# Altium footprint library PCB - CONNECTORS - TE - FFC_15p - 1-1734248-5.PcbLib: 1 footprints
Each footprint in its own frame and in the unit in brackets; x right, y up, seen from the top. Pads: shape width x height; smd on the part's side, far side on the other; paste and mask are expansions set on the pad; w line width, h text height; cw(c..) or ccw(c..) is an arc to the next point about the centre after c.
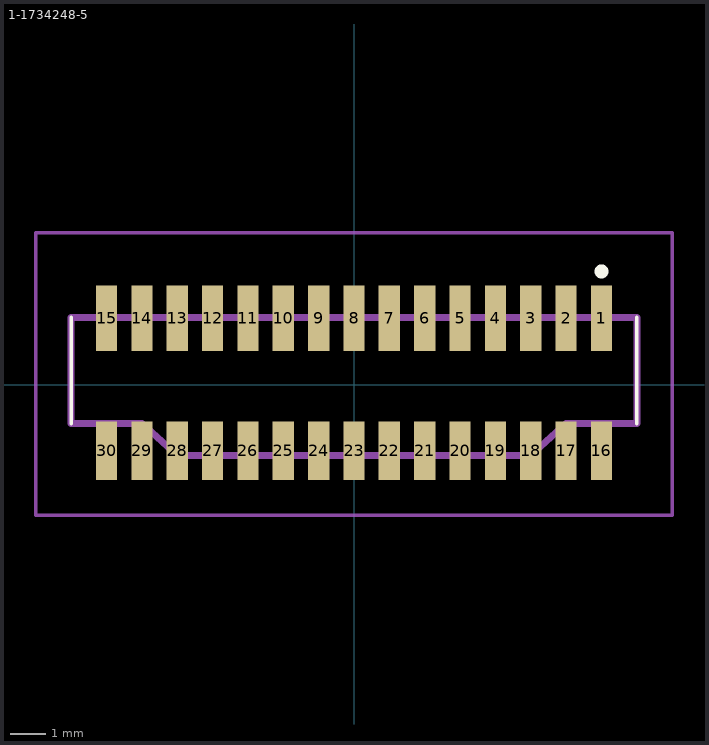
[diagram p0: the footprint, top view; thin cyan lines are the x and y axes]

## 1-1734248-5 [mm]
pads (30):
  rect 0.6x1.85 smd: 1(7,1.875) 2(6,1.875) 3(5,1.875) 4(4,1.875) 5(3,1.875) 6(2,1.875) 7(1,1.875) 8(0,1.875) 9(-1,1.875) 10(-2,1.875) 11(-3,1.875) 12(-4,1.875) 13(-5,1.875) 14(-6,1.875) 15(-7,1.875)
  rect 0.6x1.65 smd: 16(7,-1.875) 17(6,-1.875) 18(5,-1.875) 19(4,-1.875) 20(3,-1.875) 21(2,-1.875) 22(1,-1.875) 23(0,-1.875) 24(-1,-1.875) 25(-2,-1.875) 26(-3,-1.875) 27(-4,-1.875) 28(-5,-1.875) 29(-6,-1.875) 30(-7,-1.875)
Top Overlay:
  lines w0.1: -8,-1.1 -8,1.9 ; 8,-1.1 8,1.9
  lines w0.2: 6.9,3.2 ccw(c7,3.2) 7.1,3.2 ccw(c7,3.2) 6.9,3.2
Mechanical 13:
  lines w0.2: -8,-1.1 -6,-1.1 -5,-2 5,-2 6,-1.1 8,-1.1 8,1.9 -8,1.9 -8,-1.1
Mechanical 15:
  lines w0.1: -9,-3.7 -9,4.3 9,4.3 9,-3.7 -9,-3.7
3D body "1-1734248-5.stp": height 5.68, standoff 0, extent -11.2,-2.58 11.2,2.27